# EAGLE library part FREESCALE_MKL17Z256VFM4 (library konekt)
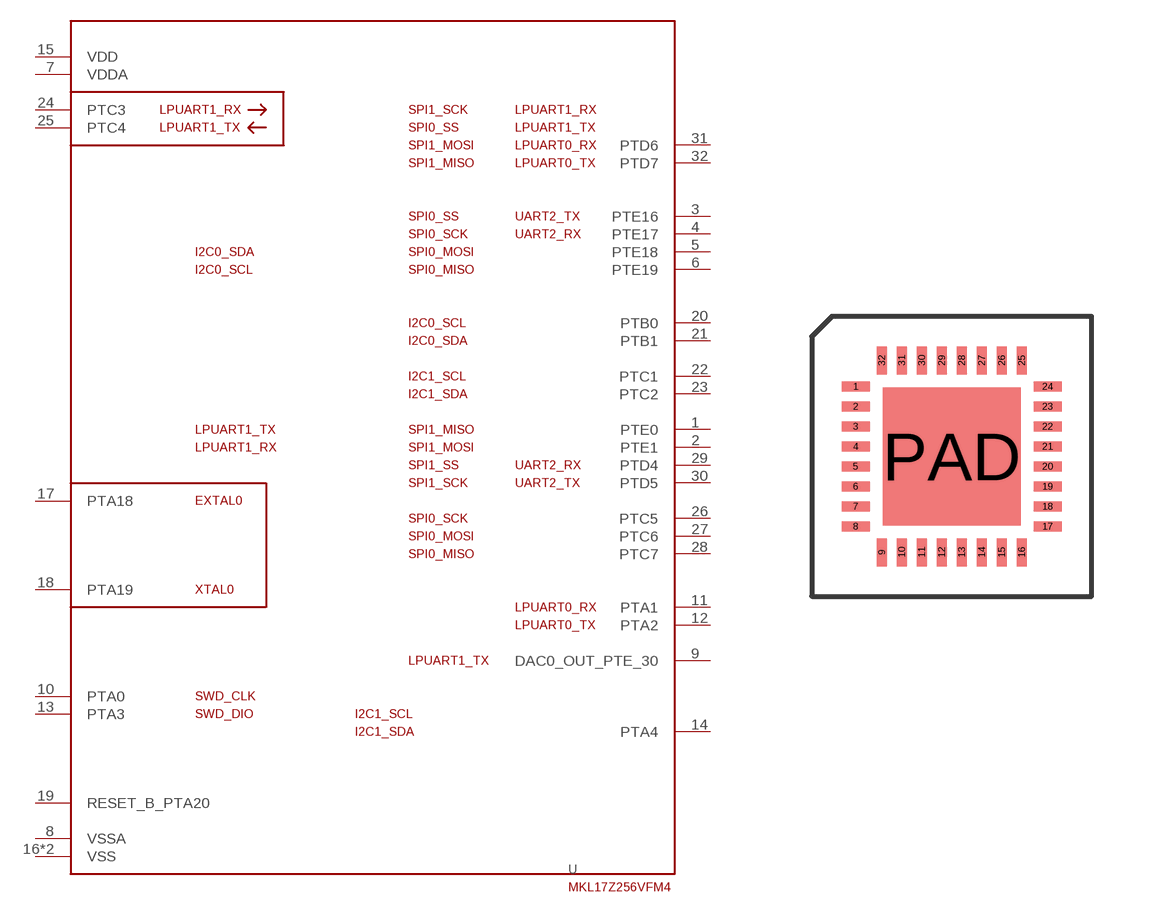
[diagram p0: symbol with the pads of QFN_32_5X5; footprint QFN_32_5X5]

Designator prefix U

## FREESCALE_MKL17Z256VFM4 (MFG: FREESCALE; MPN: MKL17Z256VFM4; PACKAGE: QFN32_5x5)  [QFN_32_5X5]
1  PTE0
2  PTE1
3  PTE16
4  PTE17
5  PTE18
6  PTE19
7  VDDA
8  VSSA
9  DAC0_OUT_PTE_30
10  PTA0
11  PTA1
12  PTA2
13  PTA3
14  PTA4
15  VDD
16  VSS
17  PTA18
18  PTA19
19  RESET_B_PTA20
20  PTB0
21  PTB1
22  PTC1
23  PTC2
24  PTC3
25  PTC4
26  PTC5
27  PTC6
28  PTC7
29  PTD4
30  PTD5
31  PTD6
32  PTD7
PAD  VSS

## Footprint QFN_32_5X5 (pad centres in mm)
smd 0.7 x 0.25: 1 -2.4,1.75; 2 -2.4,1.25; 3 -2.4,0.75; 4 -2.4,0.25; 5 -2.4,-0.25; 6 -2.4,-0.75; 7 -2.4,-1.25; 8 -2.4,-1.75; 17 2.4,-1.75; 18 2.4,-1.25; 19 2.4,-0.75; 20 2.4,-0.25; 21 2.4,0.25; 22 2.4,0.75; 23 2.4,1.25; 24 2.4,1.75
smd 0.25 x 0.7: 9 -1.75,-2.4; 10 -1.25,-2.4; 11 -0.75,-2.4; 12 -0.25,-2.4; 13 0.25,-2.4; 14 0.75,-2.4; 15 1.25,-2.4; 16 1.75,-2.4; 25 1.75,2.4; 26 1.25,2.4; 27 0.75,2.4; 28 0.25,2.4; 29 -0.25,2.4; 30 -0.75,2.4; 31 -1.25,2.4; 32 -1.75,2.4
smd 3.45 x 3.45: PAD 0,0